# Altium integrated library Cypress PSoC 1.IntLib: 188 symbols (part 6 of 11)
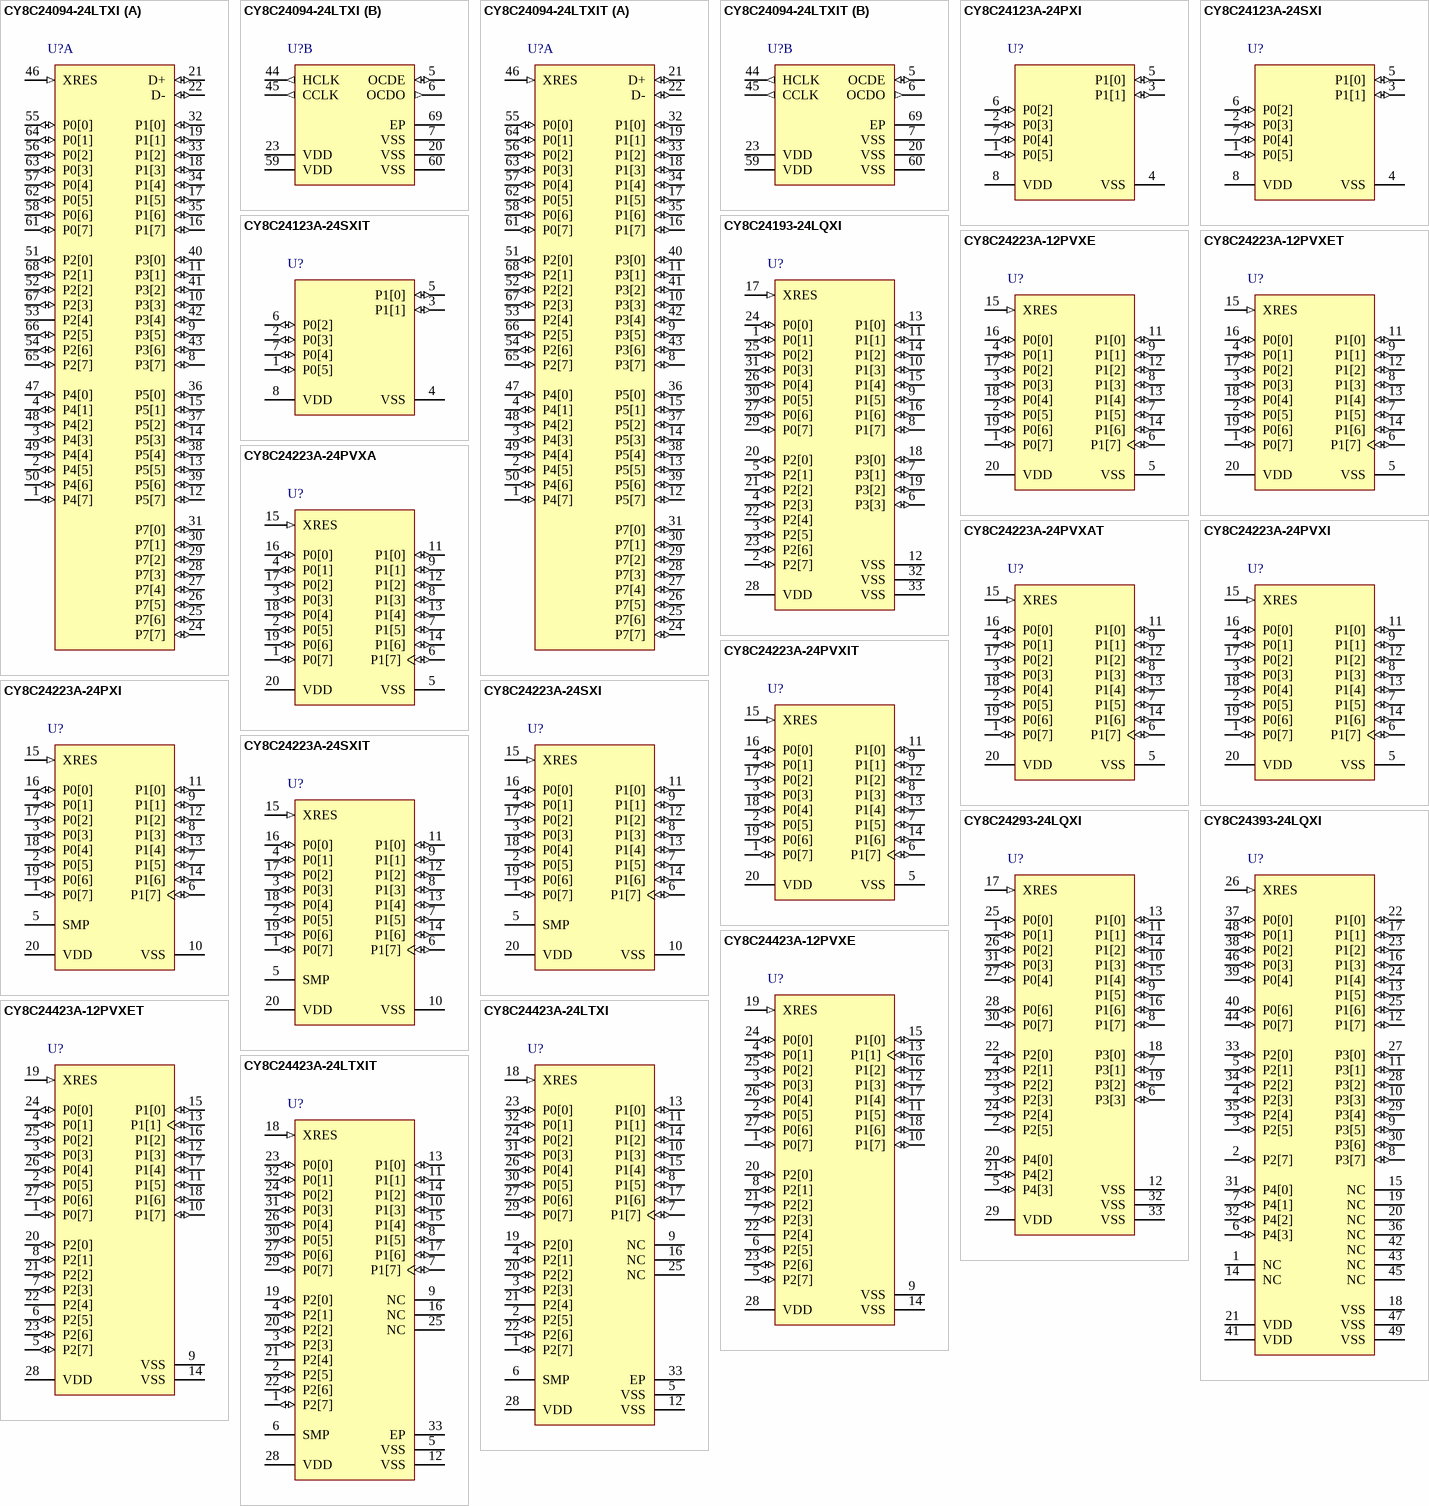
[diagram p16: symbols CY8C24094-24LTXI to CY8C24423A-24LTXIT]

## CY8C24223A-12PVXET
designator U?
Automotive Extended Temperature PSoC Programmable System-on-Chip, 4 KB Flash, 16 GPIOs, 4.75 to 5.25 V, 20-Pin SSOP (O20.21), Tape and Reel; Manufacturer: Cypress; PartNumber: CY8C24223A-12PVXET; Flash (KB): 4; Max. Operating Voltage (V): 5.25; Min. Operating Voltage (V): 4.75; DatasheetVersion: Rev. *L; PackageVersion: *C; PackageReference: PVX20; PackageDescription: 20-Pin SSOP, Body 7.2 x 5.3 mm, Pitch 0.65 mm; Supplier 1: Digi-Key; Supplier Part Number 1: CY8C24223A-12PVXET-ND; Supplier 2: Mouser; Supplier Part Number 2: 727-CYC24223A12PVXET; No. of Programmable Digital Blocks: 4; Mounting Technology: Surface Mount; ComponentLink1Description: Manufacturer URL; ComponentLink1URL: http://www.cypress.com/; ComponentLink2Description: Datasheet; ComponentLink2URL: http://www.cypress.com/?docID=48231; ComponentLink3Description: Package Specification; ComponentLink3URL: http://www.cypress.com/?docID=39148; ComponentLink4Description: Product URL; ComponentLink4URL: http://www.cypress.com/?rID=3310
footprint CYP-PVX20_N (SOP, 20-Leads, Body 7.2x5.3mm, Pitch 0.65mm, IPC Medium Density)
footprint CYP-PVX20_L (SOP, 20-Leads, Body 7.2x5.3mm, Pitch 0.65mm, IPC High Density)
footprint CYP-PVX20_M (SOP, 20-Leads, Body 7.2x5.3mm, Pitch 0.65mm, IPC Low Density)
pins: 1 P0[7] (io) "Analog column mux input", 2 P0[5] (io) "Analog column mux input and column  output", 3 P0[3] (io) "Analog column mux input and column  output", 4 P0[1] (io) "Analog column mux input", 5 VSS (power) "Ground connection", 6 P1[7] (io) "I2C Serial Clock (SCL)", 7 P1[5] (io) "I2C Serial Data(SDA)", 8 P1[3] (io), 9 P1[1] (io) "Crystal Input (XTALin), I2C Serial Clock  (SCL), ISSP-SCLK", 11 P1[0] (io) "Crystal Output (XTALout), I2C Serial Data(SDA),ISSP-SDATA", 12 P1[2] (io), 13 P1[4] (io) "Optional External Clock Input (EXTCLK)", 14 P1[6] (io), 15 XRES (in) "Active high external reset with internal pull  down", 16 P0[0] (io) "Analog column mux input", 17 P0[2] (io) "Analog column mux input", 18 P0[4] (io) "Analog column mux input", 19 P0[6] (io) "Analog column mux input", 20 VDD (power) "Supply voltage"

## CY8C24223A-24PVXA
designator U?
Automotive PSoC Programmable System-on-Chip, 4 KB Flash, 16 GPIOs, 3.00 to 5.25 V, 20-Pin SSOP (O20.21); Manufacturer: Cypress; PartNumber: CY8C24223A-24PVXA; Flash (KB): 4; Max. Operating Voltage (V): 5.25; Min. Operating Voltage (V): 3.00; DatasheetVersion: Rev. *H; PackageVersion: *C; PackageReference: PVX20; PackageDescription: 20-Pin SSOP, Body 7.2 x 5.3 mm, Pitch 0.65 mm; Supplier 1: Digi-Key; Supplier Part Number 1: CY8C24223A-24PVXA-ND; Supplier 2: Mouser; Supplier Part Number 2: 727-CY8C24223A24PVXA; No. of Programmable Digital Blocks: 4; Mounting Technology: Surface Mount; ComponentLink1Description: Manufacturer URL; ComponentLink1URL: http://www.cypress.com/; ComponentLink2Description: Datasheet; ComponentLink2URL: http://www.cypress.com/?docID=43395; ComponentLink3Description: Package Specification; ComponentLink3URL: http://www.cypress.com/?docID=39148; ComponentLink4Description: Product URL; ComponentLink4URL: http://www.cypress.com/?rID=36739
footprint CYP-PVX20_N (SOP, 20-Leads, Body 7.2x5.3mm, Pitch 0.65mm, IPC Medium Density)
footprint CYP-PVX20_L (SOP, 20-Leads, Body 7.2x5.3mm, Pitch 0.65mm, IPC High Density)
footprint CYP-PVX20_M (SOP, 20-Leads, Body 7.2x5.3mm, Pitch 0.65mm, IPC Low Density)
pins: 1 P0[7] (io) "Analog column mux input", 2 P0[5] (io) "Analog column mux input and column  output", 3 P0[3] (io) "Analog column mux input and column  output", 4 P0[1] (io) "Analog column mux input", 5 VSS (power) "Ground connection", 6 P1[7] (io) "I2C Serial Clock (SCL)", 7 P1[5] (io) "I2C Serial Data(SDA)", 8 P1[3] (io), 9 P1[1] (io) "Crystal Input (XTALin), I2C Serial Clock  (SCL), ISSP-SCLK", 11 P1[0] (io) "Crystal Output (XTALout), I2C Serial Data(SDA),ISSP-SDATA", 12 P1[2] (io), 13 P1[4] (io) "Optional External Clock Input (EXTCLK)", 14 P1[6] (io), 15 XRES (in) "Active high external reset with internal pull  down", 16 P0[0] (io) "Analog column mux input", 17 P0[2] (io) "Analog column mux input", 18 P0[4] (io) "Analog column mux input", 19 P0[6] (io) "Analog column mux input", 20 VDD (power) "Supply voltage"

## CY8C24223A-24PVXAT
designator U?
Automotive PSoC Programmable System-on-Chip, 4 KB Flash, 16 GPIOs, 3.00 to 5.25 V, 20-Pin SSOP (O20.21), Tape and Reel; Manufacturer: Cypress; PartNumber: CY8C24223A-24PVXAT; Flash (KB): 4; Max. Operating Voltage (V): 5.25; Min. Operating Voltage (V): 3.00; DatasheetVersion: Rev. *H; PackageVersion: *C; PackageReference: PVX20; PackageDescription: 20-Pin SSOP, Body 7.2 x 5.3 mm, Pitch 0.65 mm; Supplier 1: Digi-Key; Supplier Part Number 1: CY8C24223A-24PVXAT-ND; Supplier 2: Mouser; Supplier Part Number 2: 727-8C24223A24PVXAT; No. of Programmable Digital Blocks: 4; Mounting Technology: Surface Mount; ComponentLink1Description: Manufacturer URL; ComponentLink1URL: http://www.cypress.com/; ComponentLink2Description: Datasheet; ComponentLink2URL: http://www.cypress.com/?docID=43395; ComponentLink3Description: Package Specification; ComponentLink3URL: http://www.cypress.com/?docID=39148; ComponentLink4Description: Product URL; ComponentLink4URL: http://www.cypress.com/?rID=36739
footprint CYP-PVX20_N (SOP, 20-Leads, Body 7.2x5.3mm, Pitch 0.65mm, IPC Medium Density)
footprint CYP-PVX20_L (SOP, 20-Leads, Body 7.2x5.3mm, Pitch 0.65mm, IPC High Density)
footprint CYP-PVX20_M (SOP, 20-Leads, Body 7.2x5.3mm, Pitch 0.65mm, IPC Low Density)
pins: 1 P0[7] (io) "Analog column mux input", 2 P0[5] (io) "Analog column mux input and column  output", 3 P0[3] (io) "Analog column mux input and column  output", 4 P0[1] (io) "Analog column mux input", 5 VSS (power) "Ground connection", 6 P1[7] (io) "I2C Serial Clock (SCL)", 7 P1[5] (io) "I2C Serial Data(SDA)", 8 P1[3] (io), 9 P1[1] (io) "Crystal Input (XTALin), I2C Serial Clock  (SCL), ISSP-SCLK", 11 P1[0] (io) "Crystal Output (XTALout), I2C Serial Data(SDA),ISSP-SDATA", 12 P1[2] (io), 13 P1[4] (io) "Optional External Clock Input (EXTCLK)", 14 P1[6] (io), 15 XRES (in) "Active high external reset with internal pull  down", 16 P0[0] (io) "Analog column mux input", 17 P0[2] (io) "Analog column mux input", 18 P0[4] (io) "Analog column mux input", 19 P0[6] (io) "Analog column mux input", 20 VDD (power) "Supply voltage"

## CY8C24223A-24PVXI
designator U?
PSoC Programmable System-on-Chip, 4 KB Flash, 16 GPIOs, 3.00 to 5.25 V, 20-Pin SSOP (O20.21); Manufacturer: Cypress; PartNumber: CY8C24223A-24PVXI; Flash (KB): 4; Max. Operating Voltage (V): 5.25; Min. Operating Voltage (V): 3.00; DatasheetVersion: Rev. *T; PackageVersion: *C; PackageReference: PVX20; PackageDescription: 20-Pin SSOP, Body 7.2 x 5.3 mm, Pitch 0.65 mm; Supplier 1: Digi-Key; Supplier Part Number 1: 428-1605-ND; Supplier 2: Farnell; Supplier Part Number 2: 1267179; Supplier 3: Newark; Supplier Part Number 3: 19M7183; Supplier 4: Mouser; Supplier Part Number 4: 727-CY8C24223A24PVXI; No. of Programmable Digital Blocks: 4; Mounting Technology: Surface Mount; ComponentLink1Description: Manufacturer URL; ComponentLink1URL: http://www.cypress.com/; ComponentLink2Description: Datasheet; ComponentLink2URL: http://www.cypress.com/?docID=45193; ComponentLink3Description: Package Specification; ComponentLink3URL: http://www.cypress.com/?docID=39148; ComponentLink4Description: Product URL; ComponentLink4URL: http://www.cypress.com/?rID=3351
footprint CYP-PVX20_N (SOP, 20-Leads, Body 7.2x5.3mm, Pitch 0.65mm, IPC Medium Density)
footprint CYP-PVX20_L (SOP, 20-Leads, Body 7.2x5.3mm, Pitch 0.65mm, IPC High Density)
footprint CYP-PVX20_M (SOP, 20-Leads, Body 7.2x5.3mm, Pitch 0.65mm, IPC Low Density)
pins: 1 P0[7] (io) "Analog column mux input", 2 P0[5] (io) "Analog column mux input and column  output", 3 P0[3] (io) "Analog column mux input and column  output", 4 P0[1] (io) "Analog column mux input", 5 VSS (power) "Ground connection", 6 P1[7] (io) "I2C Serial Clock (SCL)", 7 P1[5] (io) "I2C Serial Data(SDA)", 8 P1[3] (io), 9 P1[1] (io) "Crystal Input (XTALin), I2C Serial Clock  (SCL), ISSP-SCLK", 11 P1[0] (io) "Crystal Output (XTALout), I2C Serial Data(SDA),ISSP-SDATA", 12 P1[2] (io), 13 P1[4] (io) "Optional External Clock Input (EXTCLK)", 14 P1[6] (io), 15 XRES (in) "Active high external reset with internal pull  down", 16 P0[0] (io) "Analog column mux input", 17 P0[2] (io) "Analog column mux input", 18 P0[4] (io) "Analog column mux input", 19 P0[6] (io) "Analog column mux input", 20 VDD (power) "Supply voltage"

## CY8C24223A-24PVXIT
designator U?
PSoC Programmable System-on-Chip, 4 KB Flash, 16 GPIOs, 3.00 to 5.25 V, 20-Pin SSOP (O20.21), Tape and Reel; Manufacturer: Cypress; PartNumber: CY8C24223A-24PVXIT; Flash (KB): 4; Max. Operating Voltage (V): 5.25; Min. Operating Voltage (V): 3.00; DatasheetVersion: Rev. *T; PackageVersion: *C; PackageReference: PVX20; PackageDescription: 20-Pin SSOP, Body 7.2 x 5.3 mm, Pitch 0.65 mm; Supplier 1: Digi-Key; Supplier Part Number 1: CY8C24223A-24PVXIT-ND; Supplier 2: Mouser; Supplier Part Number 2: 727-CYC24223A24PVXIT; No. of Programmable Digital Blocks: 4; Mounting Technology: Surface Mount; ComponentLink1Description: Manufacturer URL; ComponentLink1URL: http://www.cypress.com/; ComponentLink2Description: Datasheet; ComponentLink2URL: http://www.cypress.com/?docID=45193; ComponentLink3Description: Package Specification; ComponentLink3URL: http://www.cypress.com/?docID=39148; ComponentLink4Description: Product URL; ComponentLink4URL: http://www.cypress.com/?rID=3310
footprint CYP-PVX20_N (SOP, 20-Leads, Body 7.2x5.3mm, Pitch 0.65mm, IPC Medium Density)
footprint CYP-PVX20_L (SOP, 20-Leads, Body 7.2x5.3mm, Pitch 0.65mm, IPC High Density)
footprint CYP-PVX20_M (SOP, 20-Leads, Body 7.2x5.3mm, Pitch 0.65mm, IPC Low Density)
pins: 1 P0[7] (io) "Analog column mux input", 2 P0[5] (io) "Analog column mux input and column  output", 3 P0[3] (io) "Analog column mux input and column  output", 4 P0[1] (io) "Analog column mux input", 5 VSS (power) "Ground connection", 6 P1[7] (io) "I2C Serial Clock (SCL)", 7 P1[5] (io) "I2C Serial Data(SDA)", 8 P1[3] (io), 9 P1[1] (io) "Crystal Input (XTALin), I2C Serial Clock  (SCL), ISSP-SCLK", 11 P1[0] (io) "Crystal Output (XTALout), I2C Serial Data(SDA),ISSP-SDATA", 12 P1[2] (io), 13 P1[4] (io) "Optional External Clock Input (EXTCLK)", 14 P1[6] (io), 15 XRES (in) "Active high external reset with internal pull  down", 16 P0[0] (io) "Analog column mux input", 17 P0[2] (io) "Analog column mux input", 18 P0[4] (io) "Analog column mux input", 19 P0[6] (io) "Analog column mux input", 20 VDD (power) "Supply voltage"

## CY8C24223A-24PXI
designator U?
PSoC Programmable System-on-Chip, 4 KB Flash, 16 GPIOs, 3.00 to 5.25 V, 20-Pin DIP (P20.3); Manufacturer: Cypress; PartNumber: CY8C24223A-24PXI; Flash (KB): 4; Max. Operating Voltage (V): 5.25; Min. Operating Voltage (V): 3.00; DatasheetVersion: Rev. *T; PackageVersion: Rev. *R; PackageReference: P20.3; PackageDescription: 20-Pin PDIP, Row Spacing 7.62 mm, Pitch 2.54 mm; Supplier 1: Digi-Key; Supplier Part Number 1: 428-1604-ND; Supplier 2: Farnell; Supplier Part Number 2: 1321737; Supplier 3: Newark; Supplier Part Number 3: 19M7185; Supplier 4: Mouser; Supplier Part Number 4: 727-CY8C24223A-24PXI; No. of Programmable Digital Blocks: 4; Mounting Technology: Through Hole; ComponentLink1Description: Manufacturer URL; ComponentLink1URL: http://www.cypress.com/; ComponentLink2Description: Datasheet; ComponentLink2URL: http://www.cypress.com/?docID=45193; ComponentLink3Description: Package Specification; ComponentLink3URL: http://www.cypress.com/?docID=36703; ComponentLink4Description: Product URL; ComponentLink4URL: http://www.cypress.com/?rID=3351
footprint CYP-P20.3 (DIP, 20-Leads, Row Spacing 7.62mm, Body 25.527x6.604mm, Pitch 2.54mm)
pins: 1 P0[7] (io) "Analog column mux input", 2 P0[5] (io) "Analog column mux input and column output", 3 P0[3] (io) "Analog column mux input and column output", 4 P0[1] (io) "Analog column mux input", 5 SMP (power) "SMP connection to external components required", 6 P1[7] (io) "I2C SCL", 7 P1[5] (io) "I2C SDA", 8 P1[3] (io), 9 P1[1] (io) "XTALout, I2C SDA, ISSP-SDATA", 10 VSS (power) "Ground connection.", 11 P1[0] (io) "XTALout, I2C SDA, ISSP-SDATA", 12 P1[2] (io), 13 P1[4] (io) "Optional external clock input (EXTCLK)", 14 P1[6] (io), 15 XRES (in) "Active high external reset with internal pull-down", 16 P0[0] (io) "Analog column mux input", 17 P0[2] (io) "Analog column mux input", 18 P0[4] (io) "Analog column mux input", 19 P0[6] (io) "Analog column mux input", 20 VDD (power) "Supply voltage"

## CY8C24223A-24SXI
designator U?
PSoC Programmable System-on-Chip, 4 KB Flash, 16 GPIOs, 3.00 to 5.25 V, 20-Pin SOIC (S20.3); Manufacturer: Cypress; PartNumber: CY8C24223A-24SXI; Flash (KB): 4; Max. Operating Voltage (V): 5.25; Min. Operating Voltage (V): 3.00; DatasheetVersion: Rev. *T; PackageReference: S20.3; PackageDescription: 20-Pin SOIC, Body 12.83 x 7.51 mm, Pitch 1.27 mm; Supplier 1: Digi-Key; Supplier Part Number 1: 428-1606-ND; Supplier 2: Newark; Supplier Part Number 2: 19M7186; Supplier 3: Mouser; Supplier Part Number 3: 727-CY8C24223A-24SXI; No. of Programmable Digital Blocks: 4; Mounting Technology: Surface Mount; Code_JEDEC: MO-119; ComponentLink1Description: Manufacturer URL; ComponentLink1URL: http://www.cypress.com/; ComponentLink2Description: Datasheet; ComponentLink2URL: http://www.cypress.com/?docID=45193; ComponentLink3Description: Package Specification; ComponentLink3URL: http://www.cypress.com/?docID=35973; ComponentLink4Description: Product URL; ComponentLink4URL: http://www.cypress.com/?rID=3351
footprint CYP-S20.3_N (SOIC, 20-Leads, Body 12.83x7.51mm, Pitch 1.27mm, IPC Medium Density)
footprint CYP-S20.3_L (SOIC, 20-Leads, Body 12.83x7.51mm, Pitch 1.27mm, IPC High Density)
footprint CYP-S20.3_M (SOIC, 20-Leads, Body 12.83x7.51mm, Pitch 1.27mm, IPC Low Density)
pins: 1 P0[7] (io) "Analog column mux input", 2 P0[5] (io) "Analog column mux input and column output", 3 P0[3] (io) "Analog column mux input and column output", 4 P0[1] (io) "Analog column mux input", 5 SMP (power) "SMP connection to external components  required", 6 P1[7] (io) "I2C SCL", 7 P1[5] (io) "I2C SDA", 8 P1[3] (io), 9 P1[1] (io) "XTALin, I2C SCL,ISSP-SCLK", 10 VSS (power) "Ground connection.", 11 P1[0] (io) "XTALout, I2C SDA, ISSP-SDATA", 12 P1[2] (io), 13 P1[4] (io) "Optional external clock input (EXTCLK)", 14 P1[6] (io), 15 XRES (in) "Active high external reset with internal  pull-down", 16 P0[0] (io) "Analog column mux input", 17 P0[2] (io) "Analog column mux input", 18 P0[4] (io) "Analog column mux input", 19 P0[6] (io) "Analog column mux input", 20 VDD (power) "Supply voltage"

## CY8C24223A-24SXIT
designator U?
PSoC Programmable System-on-Chip, 4 KB Flash, 16 GPIOs, 3.00 to 5.25 V, 20-Pin SOIC (S20.3), Tape and Reel; Manufacturer: Cypress; PartNumber: CY8C24223A-24SXIT; Flash (KB): 4; Max. Operating Voltage (V): 5.25; Min. Operating Voltage (V): 3.00; DatasheetVersion: Rev. *T; PackageReference: S20.3; PackageDescription: 20-Pin SOIC, Body 12.83 x 7.51 mm, Pitch 1.27 mm; Supplier 1: Digi-Key; Supplier Part Number 1: CY8C24223A-24SXIT-ND; Supplier 2: Mouser; Supplier Part Number 2: 727-CY8C24223A24SXIT; No. of Programmable Digital Blocks: 4; Mounting Technology: Surface Mount; Code_JEDEC: MO-119; ComponentLink1Description: Manufacturer URL; ComponentLink1URL: http://www.cypress.com/; ComponentLink2Description: Datasheet; ComponentLink2URL: http://www.cypress.com/?docID=45193; ComponentLink3Description: Package Specification; ComponentLink3URL: http://www.cypress.com/?docID=35973; ComponentLink4Description: Product URL; ComponentLink4URL: http://www.cypress.com/?rID=3310
footprint CYP-S20.3_N (SOIC, 20-Leads, Body 12.83x7.51mm, Pitch 1.27mm, IPC Medium Density)
footprint CYP-S20.3_L (SOIC, 20-Leads, Body 12.83x7.51mm, Pitch 1.27mm, IPC High Density)
footprint CYP-S20.3_M (SOIC, 20-Leads, Body 12.83x7.51mm, Pitch 1.27mm, IPC Low Density)
pins: 1 P0[7] (io) "Analog column mux input", 2 P0[5] (io) "Analog column mux input and column output", 3 P0[3] (io) "Analog column mux input and column output", 4 P0[1] (io) "Analog column mux input", 5 SMP (power) "SMP connection to external components  required", 6 P1[7] (io) "I2C SCL", 7 P1[5] (io) "I2C SDA", 8 P1[3] (io), 9 P1[1] (io) "XTALin, I2C SCL,ISSP-SCLK", 10 VSS (power) "Ground connection.", 11 P1[0] (io) "XTALout, I2C SDA, ISSP-SDATA", 12 P1[2] (io), 13 P1[4] (io) "Optional external clock input (EXTCLK)", 14 P1[6] (io), 15 XRES (in) "Active high external reset with internal  pull-down", 16 P0[0] (io) "Analog column mux input", 17 P0[2] (io) "Analog column mux input", 18 P0[4] (io) "Analog column mux input", 19 P0[6] (io) "Analog column mux input", 20 VDD (power) "Supply voltage"

## CY8C24293-24LQXI
designator U?
PSoC Programmable System-on-Chip, 16 KB Flash, 28 GPIOs, 1.71 to 5.5 V, 32-Pin QFN (LQX32), Tray; Manufacturer: Cypress; PartNumber: CY8C24293-24LQXI; Flash (KB): 16; Max. Operating Frequency (MHz): 24; Max. Operating Voltage (V): 5.5; Min. Operating Voltage (V): 1.71; No. of GPIOs: 28; SRAM (KB): 2; DatasheetVersion: Rev. *E; PackageVersion: Rev. *E; PackageReference: LQX32; PackageDescription: 32-Pin QFN (5 x 4 x 0.55 mm) LQ32 3.5 x 3.5 E-Pad (Sawn); Supplier 1: Digi-Key; Supplier Part Number 1: CY8C24293-24LQXI-ND; Supplier 2: Newark; Supplier Part Number 2: 08X4480; Supplier 3: Mouser; Supplier Part Number 3: 727-CY8C24293-24LQXI; Max. Operating Temp. (degreesC): 85; Min. Operating Temp. (degreesC): -40; Packing: Tray; RoHS: Pb-Free; Mounting Technology: Surface Mount; Code_JEDEC: MO-248; ComponentLink1Description: Manufacturer URL; ComponentLink1URL: http://www.cypress.com/; ComponentLink2Description: Datasheet; ComponentLink2URL: http://www.cypress.com/?docID=45475; ComponentLink3Description: Package Specification; ComponentLink3URL: http://www.cypress.com/?docID=46968
footprint CYP-LQX32_N (QFN, 32-Leads, Body 5x5mm, Pitch 0.5mm, Thermal Pad 3.5x3.5mm, IPC Medium Density)
footprint CYP-LQX32_L (QFN, 32-Leads, Body 5x5mm, Pitch 0.5mm, Thermal Pad 3.5X3.5mm, IPC High Density)
footprint CYP-LQX32_M (QFN, 32-Leads, Body 5x5mm, Pitch 0.5mm, Thermal Pad 3.5x3.5mm, IPC Low Density)
pins: 1 P0[1] (io), 2 P2[5] (io) "Crystal output (XOut)", 3 P2[3] (io) "Crystal input (XIn)", 4 P2[1] (io), 5 P4[3] (io), 6 P3[3] (io), 7 P3[1] (io), 8 P1[7] (io) "I2C SCL, SPI SS", 9 P1[5] (io) "I2C SDA, SPI MISO", 10 P1[3] (io) "SPI CLK.", 11 P1[1] (io) "ISSP CLK, I2C SCL, SPI MOSI.", 12 VSS (power) "Ground connection.", 13 P1[0] (io) "ISSP DATA, I2C SDA, SPI CLK", 14 P1[2] (io), 15 P1[4] (io) "Optional external clock input (EXTCLK)", 16 P1[6] (io), 17 XRES (in) "Active high external reset with internal pull-down", 18 P3[0] (io), 19 P3[2] (io), 20 P4[0] (io), 21 P4[2] (io), 22 P2[0] (io), 23 P2[2] (io), 24 P2[4] (io), 25 P0[0] (io), 26 P0[2] (io), 27 P0[4] (io), 28 P0[6] (io), 29 VDD (power), 30 P0[7] (io), 31 P0[3] (io), 32 VSS (power) "Ground connection", 33 VSS (power) "Center pad must be connected to ground"

## CY8C24393-24LQXI
designator U?
PSoC Programmable System-on-Chip, 16 KB Flash, 34 GPIOs, 1.71 to 5.5 V, 48-Pin QFN (LQX48A), Tray; Manufacturer: Cypress; PartNumber: CY8C24393-24LQXI; Flash (KB): 16; Max. Operating Frequency (MHz): 24; Max. Operating Voltage (V): 5.5; Min. Operating Voltage (V): 1.71; No. of GPIOs: 34; SRAM (KB): 2; DatasheetVersion: Rev. *E; PackageVersion: Rev. *E; PackageReference: LQX48A; PackageDescription: 48-pin QFN, Body 6 x 6 mm, Pitch 0.4 mm; Supplier 1: Digi-Key; Supplier Part Number 1: CY8C24393-24LQXI-ND; Supplier 2: Newark; Supplier Part Number 2: 08X4481; Supplier 3: Mouser; Supplier Part Number 3: 727-CY8C24393-24LQXI; Max. Operating Temp. (degreesC): 85; Min. Operating Temp. (degreesC): -40; Packing: Tray; RoHS: Pb-Free; Mounting Technology: Surface Mount; Code_JEDEC: MO-248; ComponentLink1Description: Manufacturer URL; ComponentLink1URL: http://www.cypress.com/; ComponentLink2Description: Datasheet; ComponentLink2URL: http://www.cypress.com/?docID=45475; ComponentLink3Description: Package Specification; ComponentLink3URL: http://www.cypress.com/?docID=45475
footprint CYP-LQX48A_N (QFN, 48-Leads, Body 6.1x6.1mm, Pitch 0.4mm, Thermal Pad 4.6x4.6mm, IPC Medium Density)
footprint CYP-LQX48A_L (QFN, 48-Leads, Body 6.1x6.1mm, Pitch 0.4mm, Thermal Pad 4.6x4.6mm, IPC High Density)
footprint CYP-LQX48A_M (QFN, 48-Leads, Body 6.1x6.1mm, Pitch 0.4mm, Thermal Pad 4.6x4.6mm, IPC Low Density)
pins: 1 NC "No connection", 2 P2[7] (io), 3 P2[5] (io) "Crystal output (XOut)", 4 P2[3] (io) "Crystal input (XIn)", 5 P2[1] (io), 6 P4[3] (io), 7 P4[1] (io), 8 P3[7] (io), 9 P3[5] (io), 10 P3[3] (io), 11 P3[1] (io), 12 P1[7] (io) "I2C SCL, SPI SS", 13 P1[5] (io) "I2C SDA, SPI MISO", 14 NC "No connection", 15 NC "No connection", 16 P1[3] (io) "SPI CLK", 17 P1[1] (io) "ISSP CLK, I2C SCL, SPI MOSI", 18 VSS (power) "Ground connection", 19 NC "No connection", 20 NC "No connection", 21 VDD (power) "Supply voltage", 22 P1[0] (io) "ISSP DATA, I2C SDA, SPI CLK", 23 P1[2] (io), 24 P1[4] (io) "Optional external clock input (EXTCLK)", 25 P1[6] (io), 26 XRES (in) "Active high external reset with internal pull-down", 27 P3[0] (io), 28 P3[2] (io), 29 P3[4] (io), 30 P3[6] (io), 31 P4[0] (io), 32 P4[2] (io), 33 P2[0] (io), 34 P2[2] (io), 35 P2[4] (io), 36 NC "No connection", 37 P0[0] (io), 38 P0[2] (io), 39 P0[4] (io), 40 P0[6] (io), 41 VDD (power) "Supply voltage", 42 NC "No connection", 43 NC "No connection", 44 P0[7] (io), 45 NC "No connection", 46 P0[3] (io), 47 VSS (power) "Ground connection", 48 P0[1] (io), 49 VSS (power) "Center pad must be connected to ground"

## CY8C24423A-12PVXE
designator U?
Automotive Extended Temperature PSoC Programmable System-on-Chip, 4 KB Flash, 24 GPIOs, 4.75 to 5.25 V, 28-Pin SSOP (O28.21); Manufacturer: Cypress; PartNumber: CY8C24423A-12PVXE; Flash (KB): 4; Max. Operating Voltage (V): 5.25; Min. Operating Voltage (V): 4.75; DatasheetVersion: Rev. *L; PackageVersion: *C; PackageReference: PVX28; PackageDescription: 28-Pin SSOP, Body 10.2 x 5.3 mm, Pitch 0.65 mm; Supplier 1: Digi-Key; Supplier Part Number 1: CY8C24423A-12PVXE-ND; Supplier 2: Mouser; Supplier Part Number 2: 727-CY8C24423A12PVXE; No. of Programmable Digital Blocks: 4; Mounting Technology: Surface Mount; ComponentLink1Description: Manufacturer URL; ComponentLink1URL: http://www.cypress.com/; ComponentLink2Description: Datasheet; ComponentLink2URL: http://www.cypress.com/?docID=48231; ComponentLink3Description: Package Specification; ComponentLink3URL: http://www.cypress.com/?docID=1371; ComponentLink4Description: Product URL; ComponentLink4URL: http://www.cypress.com/?rID=3310
footprint CYP-PVX28_N (SOP, 28-Leads, Body 10.2x5.3mm, Pitch 0.65mm, IPC Medium Density)
footprint CYP-PVX28_L (SOP, 28-Leads, Body 10.2x5.3mm, Pitch 0.65mm, IPC High Density)
footprint CYP-PVX28_M (SOP, 28-Leads, Body 10.2x5.3mm, Pitch 0.65mm, IPC Low Density)
pins: 1 P0[7] (io) "Analog column mux input", 2 P0[5] (io) "Analog column mux input and column  output", 3 P0[3] (io) "Analog column mux input and column  output", 4 P0[1] (io) "Analog column mux input", 5 P2[7] (io), 6 P2[5] (io), 7 P2[3] (io) "Direct switched capacitor block input", 8 P2[1] (io) "Direct switched capacitor block input", 9 VSS (power) "Ground connection", 10 P1[7] (io) "I2C Serial Clock (SCL)", 11 P1[5] (io) "I2C Serial Data (SDA)", 12 P1[3] (io), 13 P1[1] (io) "Crystal Input (XTALin), I2C Serial Clock  (SCL), ISSP-SCLK [5]", 14 VSS (power) "Ground connection", 15 P1[0] (io) "Crystal Output (XTALout), I 2 C Serial Data  (SDA), ISSP-SDATA [5]", 16 P1[2] (io), 17 P1[4] (io) "Optional External Clock Input (EXTCLK)", 18 P1[6] (io), 19 XRES (in) "Active high external reset with internal pull down", 20 P2[0] (io) "Direct switched capacitor block input", 21 P2[2] (io) "Direct switched capacitor block input", 22 P2[4] (power) "External Analog Ground (AGND)", 23 P2[6] (io) "External Voltage Reference (VRef)", 24 P0[0] (io) "Analog column mux input", 25 P0[2] (io) "Analog column mux input", 26 P0[4] (io) "Analog column mux input", 27 P0[6] (io) "Analog column mux input", 28 VDD (power) "Supply voltage"

## CY8C24423A-12PVXET
designator U?
Automotive Extended Temperature PSoC Programmable System-on-Chip, 4 KB Flash, 24 GPIOs, 4.75 to 5.25 V, 28 Pin SSOP (O28.21), Tape and Reel; Manufacturer: Cypress; PartNumber: CY8C24423A-12PVXET; Flash (KB): 4; Max. Operating Voltage (V): 5.25; Min. Operating Voltage (V): 4.75; DatasheetVersion: Rev. *L; PackageVersion: *C; PackageReference: PVX28; PackageDescription: 28-Pin SSOP, Body 10.2 x 5.3 mm, Pitch 0.65 mm; Supplier 1: Digi-Key; Supplier Part Number 1: CY8C24423A-12PVXET-ND; Supplier 2: Mouser; Supplier Part Number 2: 727-CYC24423A12PVXET; No. of Programmable Digital Blocks: 4; Mounting Technology: Surface Mount; ComponentLink1Description: Manufacturer URL; ComponentLink1URL: http://www.cypress.com/; ComponentLink2Description: Datasheet; ComponentLink2URL: http://www.cypress.com/?docID=48231; ComponentLink3Description: Package Specification; ComponentLink3URL: http://www.cypress.com/?docID=1371; ComponentLink4Description: Product URL; ComponentLink4URL: http://www.cypress.com/?rID=3310
footprint CYP-PVX28_N (SOP, 28-Leads, Body 10.2x5.3mm, Pitch 0.65mm, IPC Medium Density)
footprint CYP-PVX28_L (SOP, 28-Leads, Body 10.2x5.3mm, Pitch 0.65mm, IPC High Density)
footprint CYP-PVX28_M (SOP, 28-Leads, Body 10.2x5.3mm, Pitch 0.65mm, IPC Low Density)
pins: 1 P0[7] (io) "Analog column mux input", 2 P0[5] (io) "Analog column mux input and column  output", 3 P0[3] (io) "Analog column mux input and column  output", 4 P0[1] (io) "Analog column mux input", 5 P2[7] (io), 6 P2[5] (io), 7 P2[3] (io) "Direct switched capacitor block input", 8 P2[1] (io) "Direct switched capacitor block input", 9 VSS (power) "Ground connection", 10 P1[7] (io) "I2C Serial Clock (SCL)", 11 P1[5] (io) "I2C Serial Data (SDA)", 12 P1[3] (io), 13 P1[1] (io) "Crystal Input (XTALin), I2C Serial Clock  (SCL), ISSP-SCLK [5]", 14 VSS (power) "Ground connection", 15 P1[0] (io) "Crystal Output (XTALout), I 2 C Serial Data  (SDA), ISSP-SDATA [5]", 16 P1[2] (io), 17 P1[4] (io) "Optional External Clock Input (EXTCLK)", 18 P1[6] (io), 19 XRES (in) "Active high external reset with internal pull down", 20 P2[0] (io) "Direct switched capacitor block input", 21 P2[2] (io) "Direct switched capacitor block input", 22 P2[4] (power) "External Analog Ground (AGND)", 23 P2[6] (io) "External Voltage Reference (VRef)", 24 P0[0] (io) "Analog column mux input", 25 P0[2] (io) "Analog column mux input", 26 P0[4] (io) "Analog column mux input", 27 P0[6] (io) "Analog column mux input", 28 VDD (power) "Supply voltage"

## CY8C24423A-24LTXI
designator U?
PSoC Programmable System-on-Chip, 4 KB Flash, 24 GPIOs, 3.00 to 5.25 V, 32-Pin QFN (LT32B); Manufacturer: Cypress; PartNumber: CY8C24423A-24LTXI; Flash (KB): 4; Max. Operating Voltage (V): 5.25; Min. Operating Voltage (V): 3.00; DatasheetVersion: Rev. *T; PackageReference: LTX32; PackageDescription: 32-Pin Swan QFN, Body 5 x 5 mm, Pitch 0.5 mm; Supplier 1: Digi-Key; Supplier Part Number 1: 428-2891-ND; Supplier 2: Mouser; Supplier Part Number 2: 727-CY8C24423A24LTXI; No. of Programmable Digital Blocks: 4; Mounting Technology: Surface Mount; Code_JEDEC: MO-220; ComponentLink1Description: Manufacturer URL; ComponentLink1URL: http://www.cypress.com/; ComponentLink2Description: Datasheet; ComponentLink2URL: http://www.cypress.com/?docID=45193; ComponentLink3Description: Package Specification; ComponentLink3URL: http://www.cypress.com/?docID=39513; ComponentLink4Description: Product URL; ComponentLink4URL: http://www.cypress.com/?rID=3351
footprint CYP-LTX32_N (QFN, 32-Leads, Body 5x5mm, Pitch 0.5mm, Thermal Pad 3.5x3.5mm, IPC Medium Density)
footprint CYP-LTX32_L (QFN, 32-Leads, Body 5x5mm, Pitch 0.5mm, Thermal Pad 3.5x3.5mm, IPC High Density)
footprint CYP-LTX32_M (QFN, 32-Leads, Body 5x5mm, Pitch 0.5mm, Thermal Pad 3.5x3.5mm, IPC Low Density)
pins: 1 P2[7] (io), 2 P2[5] (io), 3 P2[3] (io) "Direct switched capacitor block input", 4 P2[1] (io) "Direct switched capacitor block input", 5 VSS (power) "Ground connection", 6 SMP (power) "SMP connection to external components required", 7 P1[7] (io) "I2C SCL", 8 P1[5] (io) "I2C SDA", 9 NC "No connection. Pin must be left floating", 10 P1[3] (io), 11 P1[1] (io) "XTALin, I2C SCL,ISSP-SCLK", 12 VSS (power) "Ground Connection", 13 P1[0] (io) "XTALout, I2C SDA, ISSP-SDATA", 14 P1[2] (io), 15 P1[4] (io) "Optional EXTCLK", 16 NC "No connection. Pin must be left floating", 17 P1[6] (io), 18 XRES (in) "Active high external reset with internal pull-down", 19 P2[0] (io) "Direct switched capacitor block input", 20 P2[2] (io) "Direct switched capacitor block input", 21 P2[4] (power) "External AGND", 22 P2[6] (io) "External VREF", 23 P0[0] (io) "Analog column mux input", 24 P0[2] (io) "Analog column mux input", 25 NC "No connection. Pin must be left floating", 26 P0[4] (io) "Analog column mux input", 27 P0[6] (io) "Analog column mux input", 28 VDD (power) "Supply voltage", 29 P0[7] (io) "Analog column mux input", 30 P0[5] (io) "Analog column mux input and column  output", 31 P0[3] (io) "Analog column mux input and column  output", 32 P0[1] (io) "Analog column mux input", 33 EP (power)

## CY8C24423A-24LTXIT
designator U?
PSoC Programmable System-on-Chip, 4 KB Flash, 24 GPIOs, 3.00 to 5.25 V, 32-Pin QFN (LT32B), Tape and Reel; Manufacturer: Cypress; PartNumber: CY8C24423A-24LTXIT; Flash (KB): 4; Max. Operating Voltage (V): 5.25; Min. Operating Voltage (V): 3.00; DatasheetVersion: Rev. *T; PackageReference: LTX32; PackageDescription: 32-Pin Swan QFN, Body 5 x 5 mm, Pitch 0.5 mm; Supplier 1: Digi-Key; Supplier Part Number 1: CY8C24423A-24LTXIT-ND; Supplier 2: Mouser; Supplier Part Number 2: 727-CY8C24423A24TXIT; No. of Programmable Digital Blocks: 4; Mounting Technology: Surface Mount; Code_JEDEC: MO-220; ComponentLink1Description: Manufacturer URL; ComponentLink1URL: http://www.cypress.com/; ComponentLink2Description: Datasheet; ComponentLink2URL: http://www.cypress.com/?docID=45193; ComponentLink3Description: Package Specification; ComponentLink3URL: http://www.cypress.com/?docID=39513; ComponentLink4Description: Product URL; ComponentLink4URL: http://www.cypress.com/?rID=3351
footprint CYP-LTX32_N (QFN, 32-Leads, Body 5x5mm, Pitch 0.5mm, Thermal Pad 3.5x3.5mm, IPC Medium Density)
footprint CYP-LTX32_L (QFN, 32-Leads, Body 5x5mm, Pitch 0.5mm, Thermal Pad 3.5x3.5mm, IPC High Density)
footprint CYP-LTX32_M (QFN, 32-Leads, Body 5x5mm, Pitch 0.5mm, Thermal Pad 3.5x3.5mm, IPC Low Density)
pins: 1 P2[7] (io), 2 P2[5] (io), 3 P2[3] (io) "Direct switched capacitor block input", 4 P2[1] (io) "Direct switched capacitor block input", 5 VSS (power) "Ground connection", 6 SMP (power) "SMP connection to external components required", 7 P1[7] (io) "I2C SCL", 8 P1[5] (io) "I2C SDA", 9 NC "No connection. Pin must be left floating", 10 P1[3] (io), 11 P1[1] (io) "XTALin, I2C SCL,ISSP-SCLK", 12 VSS (power) "Ground Connection", 13 P1[0] (io) "XTALout, I2C SDA, ISSP-SDATA", 14 P1[2] (io), 15 P1[4] (io) "Optional EXTCLK", 16 NC "No connection. Pin must be left floating", 17 P1[6] (io), 18 XRES (in) "Active high external reset with internal pull-down", 19 P2[0] (io) "Direct switched capacitor block input", 20 P2[2] (io) "Direct switched capacitor block input", 21 P2[4] (power) "External AGND", 22 P2[6] (io) "External VREF", 23 P0[0] (io) "Analog column mux input", 24 P0[2] (io) "Analog column mux input", 25 NC "No connection. Pin must be left floating", 26 P0[4] (io) "Analog column mux input", 27 P0[6] (io) "Analog column mux input", 28 VDD (power) "Supply voltage", 29 P0[7] (io) "Analog column mux input", 30 P0[5] (io) "Analog column mux input and column  output", 31 P0[3] (io) "Analog column mux input and column  output", 32 P0[1] (io) "Analog column mux input", 33 EP (power)

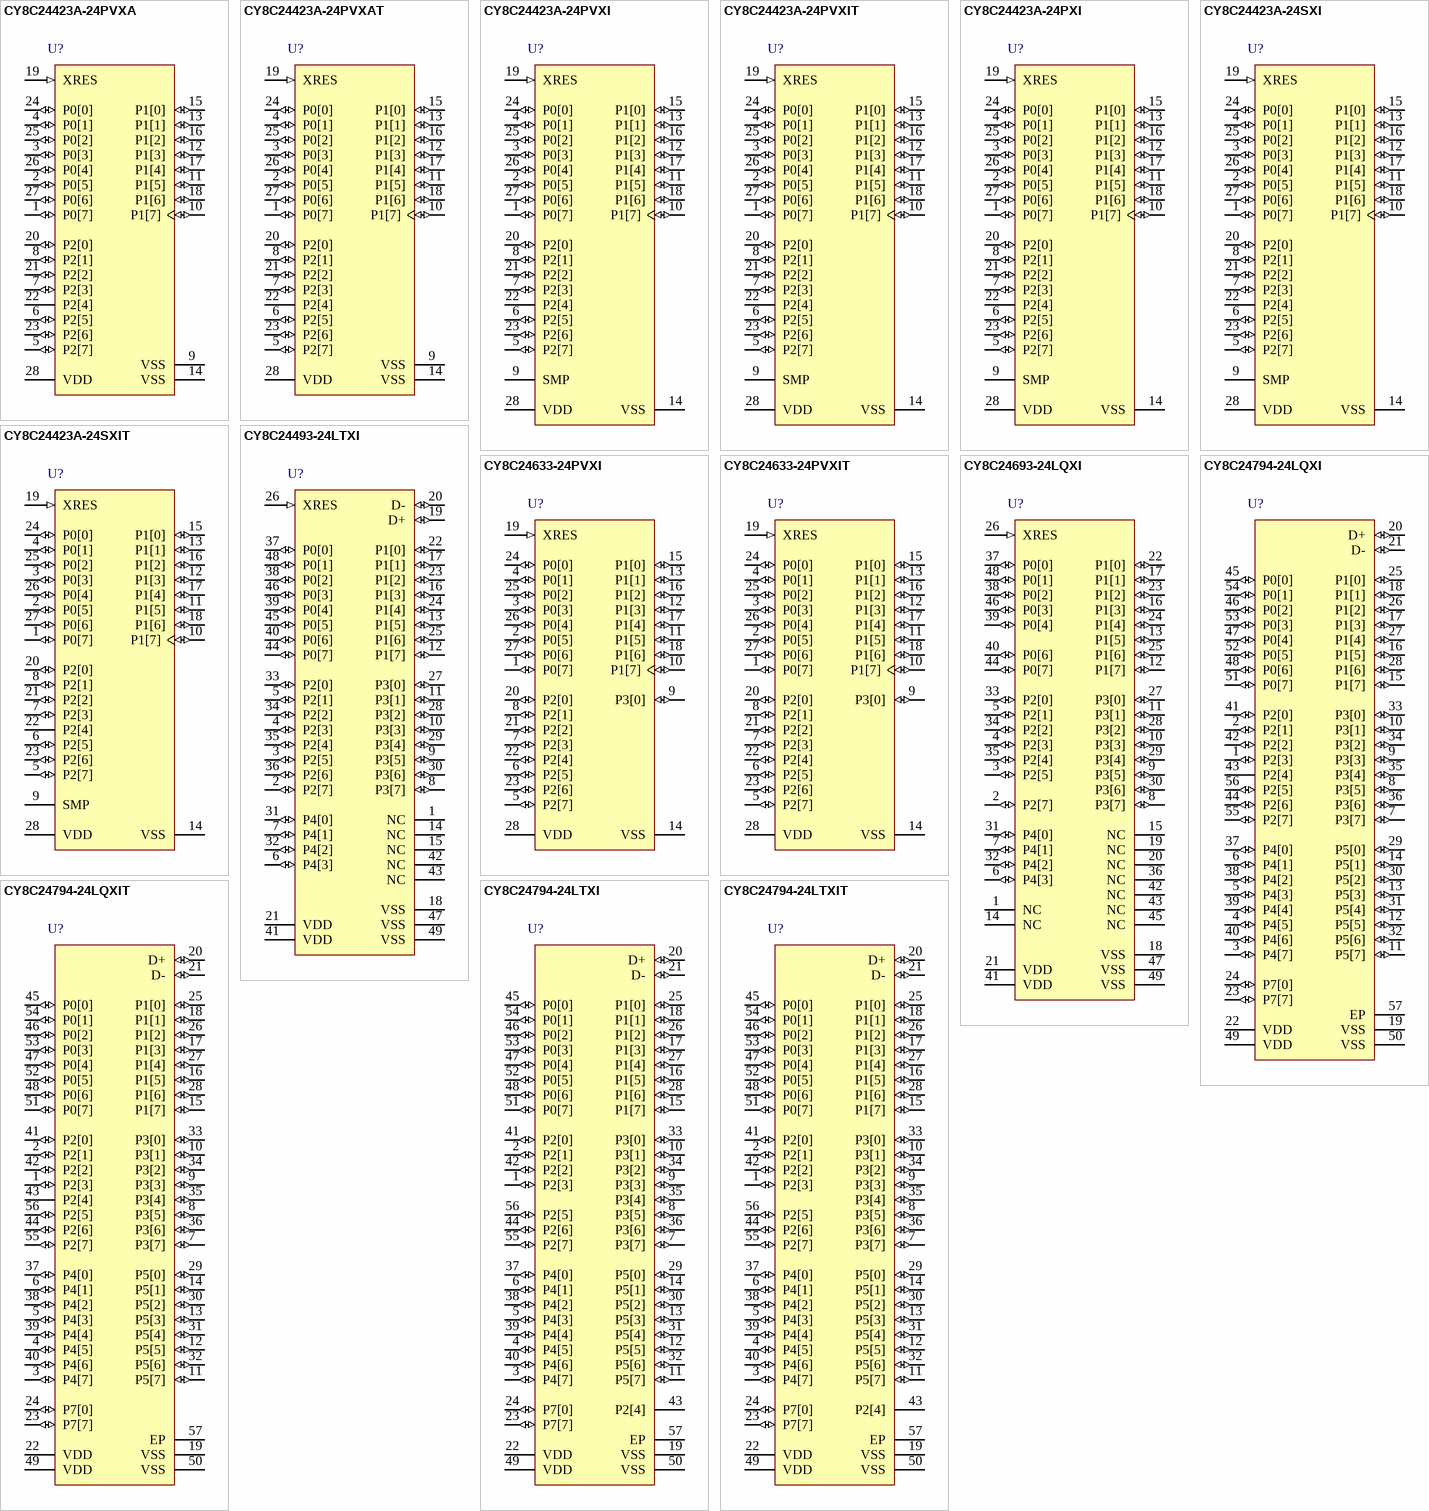
[diagram p6: symbols CY8C24423A-24PVXA to CY8C24794-24LTXIT]

## CY8C24423A-24PVXA
designator U?
Automotive PSoC Programmable System-on-Chip, 4 KB Flash, 24 GPIOs, 3.00 to 5.25 V, 28-Pin SSOP (O28.21); Manufacturer: Cypress; PartNumber: CY8C24423A-24PVXA; Flash (KB): 4; Max. Operating Voltage (V): 5.25; Min. Operating Voltage (V): 3.00; DatasheetVersion: Rev. *H; PackageVersion: *C; PackageReference: PVX28; PackageDescription: 28-Pin SSOP, Body 10.2 x 5.3 mm, Pitch 0.65 mm; Supplier 1: Digi-Key; Supplier Part Number 1: CY8C24423A-24PVXA-ND; Supplier 2: Mouser; Supplier Part Number 2: 727-CY8C24423A24PVXA; No. of Programmable Digital Blocks: 4; Mounting Technology: Surface Mount; ComponentLink1Description: Manufacturer URL; ComponentLink1URL: http://www.cypress.com/; ComponentLink2Description: Datasheet; ComponentLink2URL: http://www.cypress.com/?docID=43395; ComponentLink3Description: Package Specification; ComponentLink3URL: http://www.cypress.com/?docID=1371; ComponentLink4Description: Product URL; ComponentLink4URL: http://www.cypress.com/?rID=36739
footprint CYP-PVX28_N (SOP, 28-Leads, Body 10.2x5.3mm, Pitch 0.65mm, IPC Medium Density)
footprint CYP-PVX28_L (SOP, 28-Leads, Body 10.2x5.3mm, Pitch 0.65mm, IPC High Density)
footprint CYP-PVX28_M (SOP, 28-Leads, Body 10.2x5.3mm, Pitch 0.65mm, IPC Low Density)
pins: 1 P0[7] (io) "Analog column mux input", 2 P0[5] (io) "Analog column mux input and column output", 3 P0[3] (io) "Analog column mux input and column output", 4 P0[1] (io) "Analog column mux input", 5 P2[7] (io), 6 P2[5] (io), 7 P2[3] (io) "Direct switched capacitor block input", 8 P2[1] (io) "Direct switched capacitor block input", 9 VSS (power) "Ground connection", 10 P1[7] (io) "I2C serial clock (SCL)", 11 P1[5] (io) "I2C serial data (SDA)", 12 P1[3] (io), 13 P1[1] (io) "Crystal input (XTALin), I2C serial clock(SCL),ISSP-SCLK", 14 VSS (power) "Ground connection", 15 P1[0] (io) "Crystal output (XTALout), I2C serial data(SDA), ISSP-SDATA", 16 P1[2] (io), 17 P1[4] (io) "Optional external clock input (EXTCLK)", 18 P1[6] (io), 19 XRES (in) "Active high external reset with internal pull down", 20 P2[0] (io) "Direct switched capacitor block input", 21 P2[2] (io) "Direct switched capacitor block input", 22 P2[4] (power) "External analog ground (AGND)", 23 P2[6] (io) "External voltage reference (VRef)", 24 P0[0] (io) "Analog column mux input", 25 P0[2] (io) "Analog column mux input", 26 P0[4] (io) "Analog column mux input", 27 P0[6] (io) "Analog column mux input", 28 VDD (power) "Supply voltage"

## CY8C24423A-24PVXAT
designator U?
Automotive PSoC Programmable System-on-Chip, 4 KB Flash, 24 GPIOs, 3.00 to 5.25 V, 28-Pin SSOP (O28.21), Tape and Reel; Manufacturer: Cypress; PartNumber: CY8C24423A-24PVXAT; Flash (KB): 4; Max. Operating Voltage (V): 5.25; Min. Operating Voltage (V): 3.00; DatasheetVersion: Rev. *H; PackageVersion: *C; PackageReference: PVX28; PackageDescription: 28-Pin SSOP, Body 10.2 x 5.3 mm, Pitch 0.65 mm; Supplier 1: Digi-Key; Supplier Part Number 1: CY8C24423A-24PVXAT-ND; Supplier 2: Mouser; Supplier Part Number 2: 727-CYC24423A24PVXAT; No. of Programmable Digital Blocks: 4; Mounting Technology: Surface Mount; ComponentLink1Description: Manufacturer URL; ComponentLink1URL: http://www.cypress.com/; ComponentLink2Description: Datasheet; ComponentLink2URL: http://www.cypress.com/?docID=43395; ComponentLink3Description: Package Specification; ComponentLink3URL: http://www.cypress.com/?docID=1371; ComponentLink4Description: Product URL; ComponentLink4URL: http://www.cypress.com/?rID=36739
footprint CYP-PVX28_N (SOP, 28-Leads, Body 10.2x5.3mm, Pitch 0.65mm, IPC Medium Density)
footprint CYP-PVX28_L (SOP, 28-Leads, Body 10.2x5.3mm, Pitch 0.65mm, IPC High Density)
footprint CYP-PVX28_M (SOP, 28-Leads, Body 10.2x5.3mm, Pitch 0.65mm, IPC Low Density)
pins: 1 P0[7] (io) "Analog column mux input", 2 P0[5] (io) "Analog column mux input and column output", 3 P0[3] (io) "Analog column mux input and column output", 4 P0[1] (io) "Analog column mux input", 5 P2[7] (io), 6 P2[5] (io), 7 P2[3] (io) "Direct switched capacitor block input", 8 P2[1] (io) "Direct switched capacitor block input", 9 VSS (power) "Ground connection", 10 P1[7] (io) "I2C serial clock (SCL)", 11 P1[5] (io) "I2C serial data (SDA)", 12 P1[3] (io), 13 P1[1] (io) "Crystal input (XTALin), I2C serial clock(SCL),ISSP-SCLK", 14 VSS (power) "Ground connection", 15 P1[0] (io) "Crystal output (XTALout), I2C serial data(SDA), ISSP-SDATA", 16 P1[2] (io), 17 P1[4] (io) "Optional external clock input (EXTCLK)", 18 P1[6] (io), 19 XRES (in) "Active high external reset with internal pull down", 20 P2[0] (io) "Direct switched capacitor block input", 21 P2[2] (io) "Direct switched capacitor block input", 22 P2[4] (power) "External analog ground (AGND)", 23 P2[6] (io) "External voltage reference (VRef)", 24 P0[0] (io) "Analog column mux input", 25 P0[2] (io) "Analog column mux input", 26 P0[4] (io) "Analog column mux input", 27 P0[6] (io) "Analog column mux input", 28 VDD (power) "Supply voltage"

## CY8C24423A-24PVXI
designator U?
PSoC Programmable System-on-Chip, 4 KB Flash, 24 GPIOs, 3.00 to 5.25 V, 28-Pin SSOP (O28.21); Manufacturer: Cypress; PartNumber: CY8C24423A-24PVXI; Flash (KB): 4; Max. Operating Voltage (V): 5.25; Min. Operating Voltage (V): 3.00; DatasheetVersion: Rev. *T; PackageVersion: *C; PackageReference: PVX28; PackageDescription: 28-Pin SSOP, Body 10.2 x 5.3 mm, Pitch 0.65 mm; Supplier 1: Digi-Key; Supplier Part Number 1: 428-1608-ND; Supplier 2: Newark; Supplier Part Number 2: 19M7192; Supplier 3: Mouser; Supplier Part Number 3: 727-CY8C24423A24PVXI; No. of Programmable Digital Blocks: 4; Mounting Technology: Surface Mount; ComponentLink1Description: Manufacturer URL; ComponentLink1URL: http://www.cypress.com/; ComponentLink2Description: Datasheet; ComponentLink2URL: http://www.cypress.com/?docID=45193; ComponentLink3Description: Package Specification; ComponentLink3URL: http://www.cypress.com/?docID=1371; ComponentLink4Description: Product URL; ComponentLink4URL: http://www.cypress.com/?rID=3351
footprint CYP-PVX28_N (SOP, 28-Leads, Body 10.2x5.3mm, Pitch 0.65mm, IPC Medium Density)
footprint CYP-PVX28_L (SOP, 28-Leads, Body 10.2x5.3mm, Pitch 0.65mm, IPC High Density)
footprint CYP-PVX28_M (SOP, 28-Leads, Body 10.2x5.3mm, Pitch 0.65mm, IPC Low Density)
pins: 1 P0[7] (io) "Analog column mux input", 2 P0[5] (io) "Analog column mux input and column output", 3 P0[3] (io) "Analog column mux input and column output", 4 P0[1] (io) "Analog column mux input", 5 P2[7] (io), 6 P2[5] (io), 7 P2[3] (io) "Direct switched capacitor block input", 8 P2[1] (io) "Direct switched capacitor block input", 9 SMP (power) "SMP connection to external components required", 10 P1[7] (io) "I2C SCL", 11 P1[5] (io) "I2C SDA", 12 P1[3] (io), 13 P1[1] (io) "XTALin, I2C SCL, ISSP-SCLK", 14 VSS (power) "Ground connection.", 15 P1[0] (io) "XTALout, I2C SDA, ISSP-SDATA", 16 P1[2] (io), 17 P1[4] (io) "Optional EXTCLK", 18 P1[6] (io), 19 XRES (in) "Active high external reset with internal pull-down", 20 P2[0] (io) "Direct switched capacitor block input", 21 P2[2] (io) "Direct switched capacitor block input", 22 P2[4] (power) "External analog ground (AGND)", 23 P2[6] (io) "External voltage reference (VREF)", 24 P0[0] (io) "Analog column mux input", 25 P0[2] (io) "Analog column mux input", 26 P0[4] (io) "Analog column mux input", 27 P0[6] (io) "Analog column mux input", 28 VDD (power) "Supply voltage"

## CY8C24423A-24PVXIT
designator U?
PSoC Programmable System-on-Chip, 4 KB Flash, 24 GPIOs, 3.00 to 5.25 V, 28-Pin SSOP (O28.21), Tape and Reel; Manufacturer: Cypress; PartNumber: CY8C24423A-24PVXIT; Flash (KB): 4; Max. Operating Voltage (V): 5.25; Min. Operating Voltage (V): 3.00; DatasheetVersion: Rev. *T; PackageVersion: *C; PackageReference: PVX28; PackageDescription: 28-Pin SSOP, Body 10.2 x 5.3 mm, Pitch 0.65 mm; Supplier 1: Digi-Key; Supplier Part Number 1: CY8C24423A-24PVXIT-ND; Supplier 2: Mouser; Supplier Part Number 2: 727-CYC24423A24PVXIT; No. of Programmable Digital Blocks: 4; Mounting Technology: Surface Mount; ComponentLink1Description: Manufacturer URL; ComponentLink1URL: http://www.cypress.com/; ComponentLink2Description: Datasheet; ComponentLink2URL: http://www.cypress.com/?docID=45193; ComponentLink3Description: Package Specification; ComponentLink3URL: http://www.cypress.com/?docID=1371; ComponentLink4Description: Product URL; ComponentLink4URL: http://www.cypress.com/?rID=3351
footprint CYP-PVX28_N (SOP, 28-Leads, Body 10.2x5.3mm, Pitch 0.65mm, IPC Medium Density)
footprint CYP-PVX28_L (SOP, 28-Leads, Body 10.2x5.3mm, Pitch 0.65mm, IPC High Density)
footprint CYP-PVX28_M (SOP, 28-Leads, Body 10.2x5.3mm, Pitch 0.65mm, IPC Low Density)
pins: 1 P0[7] (io) "Analog column mux input", 2 P0[5] (io) "Analog column mux input and column output", 3 P0[3] (io) "Analog column mux input and column output", 4 P0[1] (io) "Analog column mux input", 5 P2[7] (io), 6 P2[5] (io), 7 P2[3] (io) "Direct switched capacitor block input", 8 P2[1] (io) "Direct switched capacitor block input", 9 SMP (power) "SMP connection to external components required", 10 P1[7] (io) "I2C SCL", 11 P1[5] (io) "I2C SDA", 12 P1[3] (io), 13 P1[1] (io) "XTALin, I2C SCL, ISSP-SCLK", 14 VSS (power) "Ground connection.", 15 P1[0] (io) "XTALout, I2C SDA, ISSP-SDATA", 16 P1[2] (io), 17 P1[4] (io) "Optional EXTCLK", 18 P1[6] (io), 19 XRES (in) "Active high external reset with internal pull-down", 20 P2[0] (io) "Direct switched capacitor block input", 21 P2[2] (io) "Direct switched capacitor block input", 22 P2[4] (power) "External analog ground (AGND)", 23 P2[6] (io) "External voltage reference (VREF)", 24 P0[0] (io) "Analog column mux input", 25 P0[2] (io) "Analog column mux input", 26 P0[4] (io) "Analog column mux input", 27 P0[6] (io) "Analog column mux input", 28 VDD (power) "Supply voltage"

## CY8C24423A-24PXI
designator U?
PSoC Programmable System-on-Chip, 4 KB Flash, 24 GPIOs, 3.00 to 5.25 V, 28-Pin DIP (P28.3); Manufacturer: Cypress; PartNumber: CY8C24423A-24PXI; Flash (KB): 4; Max. Operating Voltage (V): 5.25; Min. Operating Voltage (V): 3.00; DatasheetVersion: Rev. *T; PackageVersion: Rev. *R; PackageReference: P28.3; PackageDescription: 28-Pin Molded DIP, Row Spacing 7.62 mm, Pitch 2.54 mm; Supplier 1: Digi-Key; Supplier Part Number 1: 428-1607-ND; Supplier 2: Farnell; Supplier Part Number 2: 1267182; Supplier 3: Newark; Supplier Part Number 3: 19M7194; Supplier 4: Mouser; Supplier Part Number 4: 727-CY8C24423A-24PXI; No. of Programmable Digital Blocks: 4; Mounting Technology: Surface Mount; Code_JEDEC: MO-095; ComponentLink1Description: Manufacturer URL; ComponentLink1URL: http://www.cypress.com/; ComponentLink2Description: Datasheet; ComponentLink2URL: http://www.cypress.com/?docID=45193; ComponentLink3Description: Package Specification; ComponentLink3URL: http://www.cypress.com/?docID=36703; ComponentLink4Description: Product URL; ComponentLink4URL: http://www.cypress.com/?rID=3351
footprint CYP-P28.3 (DIP, 28-Leads, Body 34.67x7.05mm, Pitch 2.54mm)
pins: 1 P0[7] (io) "Analog column mux input", 2 P0[5] (io) "Analog column mux input and column output", 3 P0[3] (io) "Analog column mux input and column output", 4 P0[1] (io) "Analog column mux input", 5 P2[7] (io), 6 P2[5] (io), 7 P2[3] (io) "Direct switched capacitor block input", 8 P2[1] (io) "Direct switched capacitor block input", 9 SMP (power) "SMP connection to external components required", 10 P1[7] (io) "I2C SCL", 11 P1[5] (io) "I2C SDA", 12 P1[3] (io), 13 P1[1] (io) "XTALin, I2C SCL, ISSP-SCLK", 14 VSS (power) "Ground connection.", 15 P1[0] (io) "XTALout, I2C SDA, ISSP-SDATA", 16 P1[2] (io), 17 P1[4] (io) "Optional EXTCLK", 18 P1[6] (io), 19 XRES (in) "Active high external reset with internal pull-down", 20 P2[0] (io) "Direct switched capacitor block input", 21 P2[2] (io) "Direct switched capacitor block input", 22 P2[4] (power) "External analog ground (AGND)", 23 P2[6] (io) "External voltage reference (VREF)", 24 P0[0] (io) "Analog column mux input", 25 P0[2] (io) "Analog column mux input", 26 P0[4] (io) "Analog column mux input", 27 P0[6] (io) "Analog column mux input", 28 VDD (power) "Supply voltage"

## CY8C24423A-24SXI
designator U?
PSoC Programmable System-on-Chip, 4 KB Flash, 24 GPIOs, 3.00 to 5.25 V, 28-Pin SOIC (S28.3); Manufacturer: Cypress; PartNumber: CY8C24423A-24SXI; Flash (KB): 4; Max. Operating Voltage (V): 5.25; Min. Operating Voltage (V): 3.00; DatasheetVersion: Rev. *T; PackageVersion: *E; PackageReference: SX28; PackageDescription: 28-Pin SOIC, Body 17.91 x 7.51 mm, Pitch 1.27 mm; Supplier 1: Digi-Key; Supplier Part Number 1: 428-1609-ND; Supplier 2: Newark; Supplier Part Number 2: 19M7195; Supplier 3: Mouser; Supplier Part Number 3: 727-CY8C24423A-24SXI; No. of Programmable Digital Blocks: 4; Mounting Technology: Surface Mount; Code_JEDEC: MO-119; ComponentLink1Description: Manufacturer URL; ComponentLink1URL: http://www.cypress.com/; ComponentLink2Description: Datasheet; ComponentLink2URL: http://www.cypress.com/?docID=45193; ComponentLink3Description: Package Specification; ComponentLink3URL: http://www.cypress.com/?docID=39168; ComponentLink4Description: Product URL; ComponentLink4URL: http://www.cypress.com/?rID=3351
footprint CYP-SX28_N (SOIC, 28-Leads, Body 17.9x7.5mm, Pitch 1.27mm, IPC Medium Density)
footprint CYP-SX28_L (SOIC, 28-Leads, Body 17.9x7.5mm, Pitch 1.27mm, IPC High Density)
footprint CYP-SX28_M (SOIC, 28-Leads, Body 17.9x7.5mm, Pitch 1.27mm, IPC Low Density)
pins: 1 P0[7] (io) "Analog column mux input", 2 P0[5] (io) "Analog column mux input and column output", 3 P0[3] (io) "Analog column mux input and column output", 4 P0[1] (io) "Analog column mux input", 5 P2[7] (io), 6 P2[5] (io), 7 P2[3] (io) "Direct switched capacitor block input", 8 P2[1] (io) "Direct switched capacitor block input", 9 SMP (power) "SMP connection to external components required", 10 P1[7] (io) "I2C SCL", 11 P1[5] (io) "I2C SDA", 12 P1[3] (io), 13 P1[1] (io) "XTALin, I2C SCL, ISSP-SCLK", 14 VSS (power) "Ground connection.", 15 P1[0] (io) "XTALout, I2C SDA, ISSP-SDATA", 16 P1[2] (io), 17 P1[4] (io) "Optional EXTCLK", 18 P1[6] (io), 19 XRES (in) "Active high external reset with internal pull-down", 20 P2[0] (io) "Direct switched capacitor block input", 21 P2[2] (io) "Direct switched capacitor block input", 22 P2[4] (power) "External analog ground (AGND)", 23 P2[6] (io) "External voltage reference (VREF)", 24 P0[0] (io) "Analog column mux input", 25 P0[2] (io) "Analog column mux input", 26 P0[4] (io) "Analog column mux input", 27 P0[6] (io) "Analog column mux input", 28 VDD (power) "Supply voltage"

## CY8C24423A-24SXIT
designator U?
PSoC Programmable System-on-Chip, 4 KB Flash, 24 GPIOs, 3.00 to 5.25 V, 28-Pin SOIC (S28.3), Tape and Reel; Manufacturer: Cypress; PartNumber: CY8C24423A-24SXIT; Flash (KB): 4; Max. Operating Voltage (V): 5.25; Min. Operating Voltage (V): 3.00; DatasheetVersion: Rev. *T; PackageVersion: *E; PackageReference: SX28; PackageDescription: 28-Pin SOIC, Body 17.91 x 7.51 mm, Pitch 1.27 mm; Supplier 1: Digi-Key; Supplier Part Number 1: CY8C24423A-24SXIT-ND; Supplier 2: Mouser; Supplier Part Number 2: 727-CY8C24423A24SXIT; No. of Programmable Digital Blocks: 4; Mounting Technology: Surface Mount; Code_JEDEC: MO-119; ComponentLink1Description: Manufacturer URL; ComponentLink1URL: http://www.cypress.com/; ComponentLink2Description: Datasheet; ComponentLink2URL: http://www.cypress.com/?docID=45193; ComponentLink3Description: Package Specification; ComponentLink3URL: http://www.cypress.com/?docID=39168; ComponentLink4Description: Product URL; ComponentLink4URL: http://www.cypress.com/?rID=3351
footprint CYP-SX28_N (SOIC, 28-Leads, Body 17.9x7.5mm, Pitch 1.27mm, IPC Medium Density)
footprint CYP-SX28_L (SOIC, 28-Leads, Body 17.9x7.5mm, Pitch 1.27mm, IPC High Density)
footprint CYP-SX28_M (SOIC, 28-Leads, Body 17.9x7.5mm, Pitch 1.27mm, IPC Low Density)
pins: 1 P0[7] (io) "Analog column mux input", 2 P0[5] (io) "Analog column mux input and column output", 3 P0[3] (io) "Analog column mux input and column output", 4 P0[1] (io) "Analog column mux input", 5 P2[7] (io), 6 P2[5] (io), 7 P2[3] (io) "Direct switched capacitor block input", 8 P2[1] (io) "Direct switched capacitor block input", 9 SMP (power) "SMP connection to external components required", 10 P1[7] (io) "I2C SCL", 11 P1[5] (io) "I2C SDA", 12 P1[3] (io), 13 P1[1] (io) "XTALin, I2C SCL, ISSP-SCLK", 14 VSS (power) "Ground connection.", 15 P1[0] (io) "XTALout, I2C SDA, ISSP-SDATA", 16 P1[2] (io), 17 P1[4] (io) "Optional EXTCLK", 18 P1[6] (io), 19 XRES (in) "Active high external reset with internal pull-down", 20 P2[0] (io) "Direct switched capacitor block input", 21 P2[2] (io) "Direct switched capacitor block input", 22 P2[4] (power) "External analog ground (AGND)", 23 P2[6] (io) "External voltage reference (VREF)", 24 P0[0] (io) "Analog column mux input", 25 P0[2] (io) "Analog column mux input", 26 P0[4] (io) "Analog column mux input", 27 P0[6] (io) "Analog column mux input", 28 VDD (power) "Supply voltage"